# Altium schematic symbol library 640452-2.SchLib: 2 symbols
Pins are listed as number, name and electrical type; pins without a type are passive.

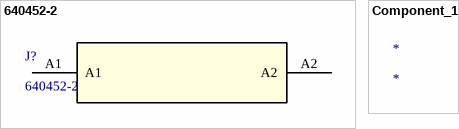
[diagram p0: symbols 640452-2 to Component_1]

## 640452-2
designator J?
No Description Available; Mfr_Name: TE Connectivity; Copyright: Copyright (C) 2022 Ultra Librarian. All rights reserved.; Manufacturer_Part_Number: 640452-2; RefDes: RefDes; Type: DEV
footprint 640452-2_TYC
pins: A1, A2

## Component_1
designator *